# EAGLE library part SIM28ML (library SIMCOM)
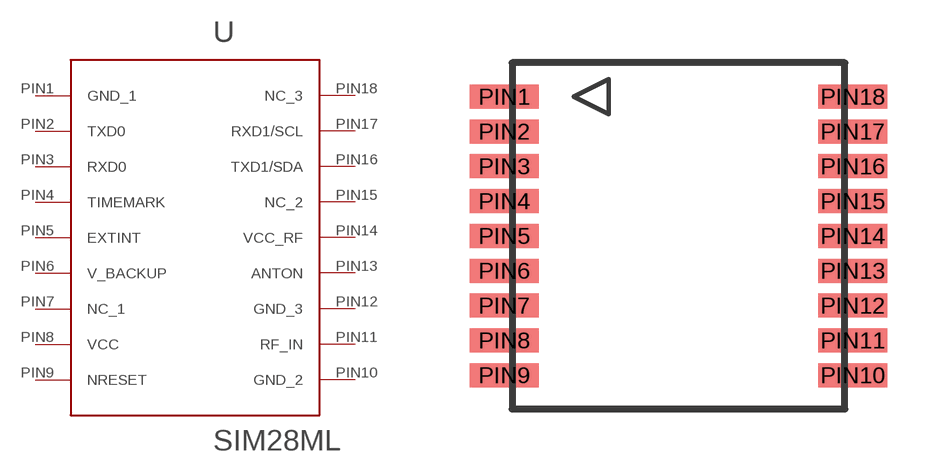
[diagram p4: symbol with the pads of SIM28ML; footprint SIM28ML]

Designator prefix -

## SIM28ML (MF: SIMCOM; MPN: SIM28ML)  [SIM28ML]
PIN1  GND_1
PIN2  TXD0
PIN3  RXD0
PIN4  TIMEMARK
PIN5  EXTINT
PIN6  V_BACKUP
PIN7  NC_1
PIN8  VCC
PIN9  NRESET
PIN10  GND_2
PIN11  RF_IN
PIN12  GND_3
PIN13  ANTON
PIN14  VCC_RF
PIN15  NC_2
PIN16  TXD1/SDA
PIN17  RXD1/SCL
PIN18  NC_3

## Footprint SIM28ML (pad centres in mm)
smd 2 x 0.7: PIN1 -5.08,4.064; PIN2 -5.08,3.048; PIN3 -5.08,2.032; PIN4 -5.08,1.016; PIN5 -5.08,0; PIN6 -5.08,-1.016; PIN7 -5.08,-2.032; PIN8 -5.08,-3.048; PIN9 -5.08,-4.064; PIN10 5.08,-4.064; PIN11 5.08,-3.048; PIN12 5.08,-2.032; PIN13 5.08,-1.016; PIN14 5.08,0; PIN15 5.08,1.016; PIN16 5.08,2.032; PIN17 5.08,3.048; PIN18 5.08,4.064